# EAGLE library part IC4050 (library chuong)
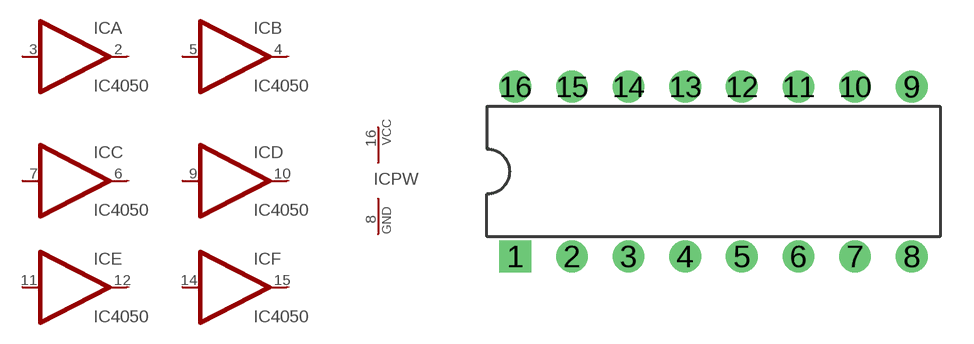
[diagram p80: symbol with the pads of DIL-16; footprint DIL-16]

Designator prefix IC; gates A=IC4050 B=IC4050 C=IC4050 D=IC4050 E=IC4050 F=IC4050 PW=POWER

## IC4050  [DIL-16]
2  A:O  in
3  A:I  in
4  B:O  in
5  B:I  in
6  C:O  in
7  C:I  in
8  PW:GND  pwr
9  D:I  in
10  D:O  in
11  E:I  in
12  E:O  in
14  F:I  in
15  F:O  in
16  PW:VCC  pwr

## Footprint DIL-16 (pad centres in mm)
drill 0.61 pad 1.422 square: 1 -8.89,-3.81
drill 0.61 pad 1.422 round: 2 -6.35,-3.81; 3 -3.81,-3.81; 4 -1.27,-3.81; 5 1.27,-3.81; 6 3.81,-3.81; 7 6.35,-3.81; 8 8.89,-3.81; 9 8.89,3.81; 10 6.35,3.81; 11 3.81,3.81; 12 1.27,3.81; 13 -1.27,3.81; 14 -3.81,3.81; 15 -6.35,3.81; 16 -8.89,3.81